# Altium schematic symbol library LED-RED.Schlib: 1 symbol
Pins are listed as number, name and electrical type; pins without a type are passive.

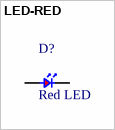
[diagram p0: symbol LED-RED]

## LED-RED
designator D?, comment Red LED
pins: A, C